# EAGLE library part VNQ7140AJTR (library sneecat_lib)
The device is a quad channel high-side driver manufactured using ST proprietary VIPower®technology and housed in PowerSSO-16 package. The device is designed to drive 12 V automotive grounded loads through a 3 V and 5 V CMOS-compatible interface, providing protection and diagnostics
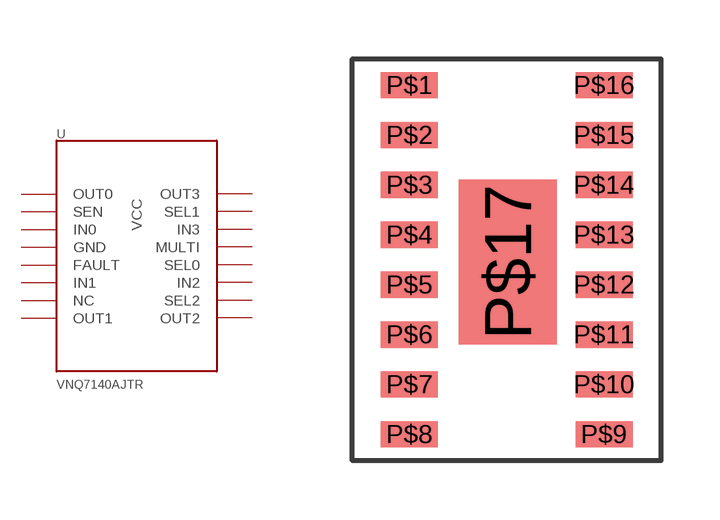
[diagram p3: symbol with the pads of PSSO-16; footprint PSSO-16]

Designator prefix -

## VNQ7140AJTR (MFRNO: VNQ7140AJTR; MOUSER: 511-VNQ7140AJTR; VENDOR: ME)  [PSSO-16]
P$1  OUT0
P$2  SEN
P$3  IN0
P$4  GND
P$5  FAULT
P$6  IN1
P$7  NC
P$8  OUT1
P$9  OUT3
P$10  SEL1
P$11  IN3
P$12  MULTI
P$13  SEL0
P$14  IN2
P$15  SEL2
P$16  OUT2
P$17  VCC

## Footprint PSSO-16 (pad centres in mm)
smd 1.45 x 0.67: P$1 0,0; P$2 0,-1.27; P$3 0,-2.54; P$4 0,-3.81; P$5 0,-5.08; P$6 0,-6.35; P$7 0,-7.62; P$8 0,-8.89; P$9 4.95,-8.89; P$10 4.95,-7.62; P$11 4.95,-6.35; P$12 4.95,-5.08; P$13 4.95,-3.81; P$14 4.95,-2.54; P$15 4.95,-1.27; P$16 4.95,0
smd 2.5 x 4.2: P$17 2.5,-4.5